# EAGLE library part LTC6405 (library lstolcman_thesis)
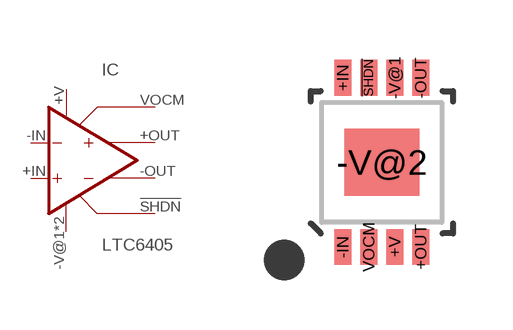
[diagram p0: symbol with the pads of MSOP8; footprint MSOP8]

Designator prefix IC

## LTC6405  [MSOP8]
!SHDN  !SHDN
+IN  +IN  in
+OUT  +OUT  out
+V  V+  pwr
-IN  -IN  in
-OUT  -OUT  out
-V@1  V-  pwr
-V@2  V-  pwr
VOCM  VOCM

## Footprint MSOP8 (pad centres in mm)
MS8E Package 8-Lead Plastic MSOP, Exposed Die Pad (Reference LTC DWG # 05-08-1662 Rev K) http://www.linear.com/docs/38722
smd 0.419 x 0.889: !SHDN -0.325,2.113; +IN -0.975,2.113; +OUT 0.975,-2.113; +V 0.325,-2.113; -IN -0.975,-2.113; -OUT 0.975,2.113; -V@1 0.325,2.113; VOCM -0.325,-2.113
smd 1.88 x 1.68: -V@2 0,0